# EAGLE library part LM748 (library #PaJa_31)
OZ - s kompenz. vstupu
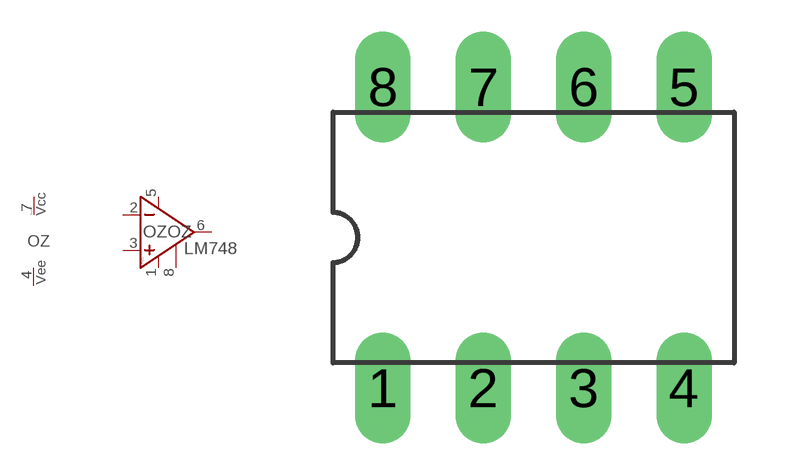
[diagram p61: symbol with the pads of DIL8; footprint DIL8]

Designator prefix OZ; gates OZ=OZ-LM748 PW=POWER_SY

## LM748  [DIL8]
1  OZ:COMP  pas
2  OZ:IN-  in
3  OZ:NEIN+  in
4  PW:VEE  pwr
5  OZ:BALANCE  pas
6  OZ:VYSTUP  out
7  PW:VCC  pwr
8  OZ:COMP.  pas

## Footprint DIL8 (pad centres in mm)
drill 0.813 pad 1.4 long: 1 -3.81,-3.81; 2 -1.27,-3.81; 3 1.27,-3.81; 4 3.81,-3.81; 5 3.81,3.81; 6 1.27,3.81; 7 -1.27,3.81; 8 -3.81,3.81